# Altium footprint library PcbLib1.PcbLib: 21 footprints (part 1 of 2)
Each footprint in its own frame and in the unit in brackets; x right, y up, seen from the top. Pads: shape width x height; smd on the part's side, far side on the other; paste and mask are expansions set on the pad; w line width, h text height; cw(c..) or ccw(c..) is an arc to the next point about the centre after c.
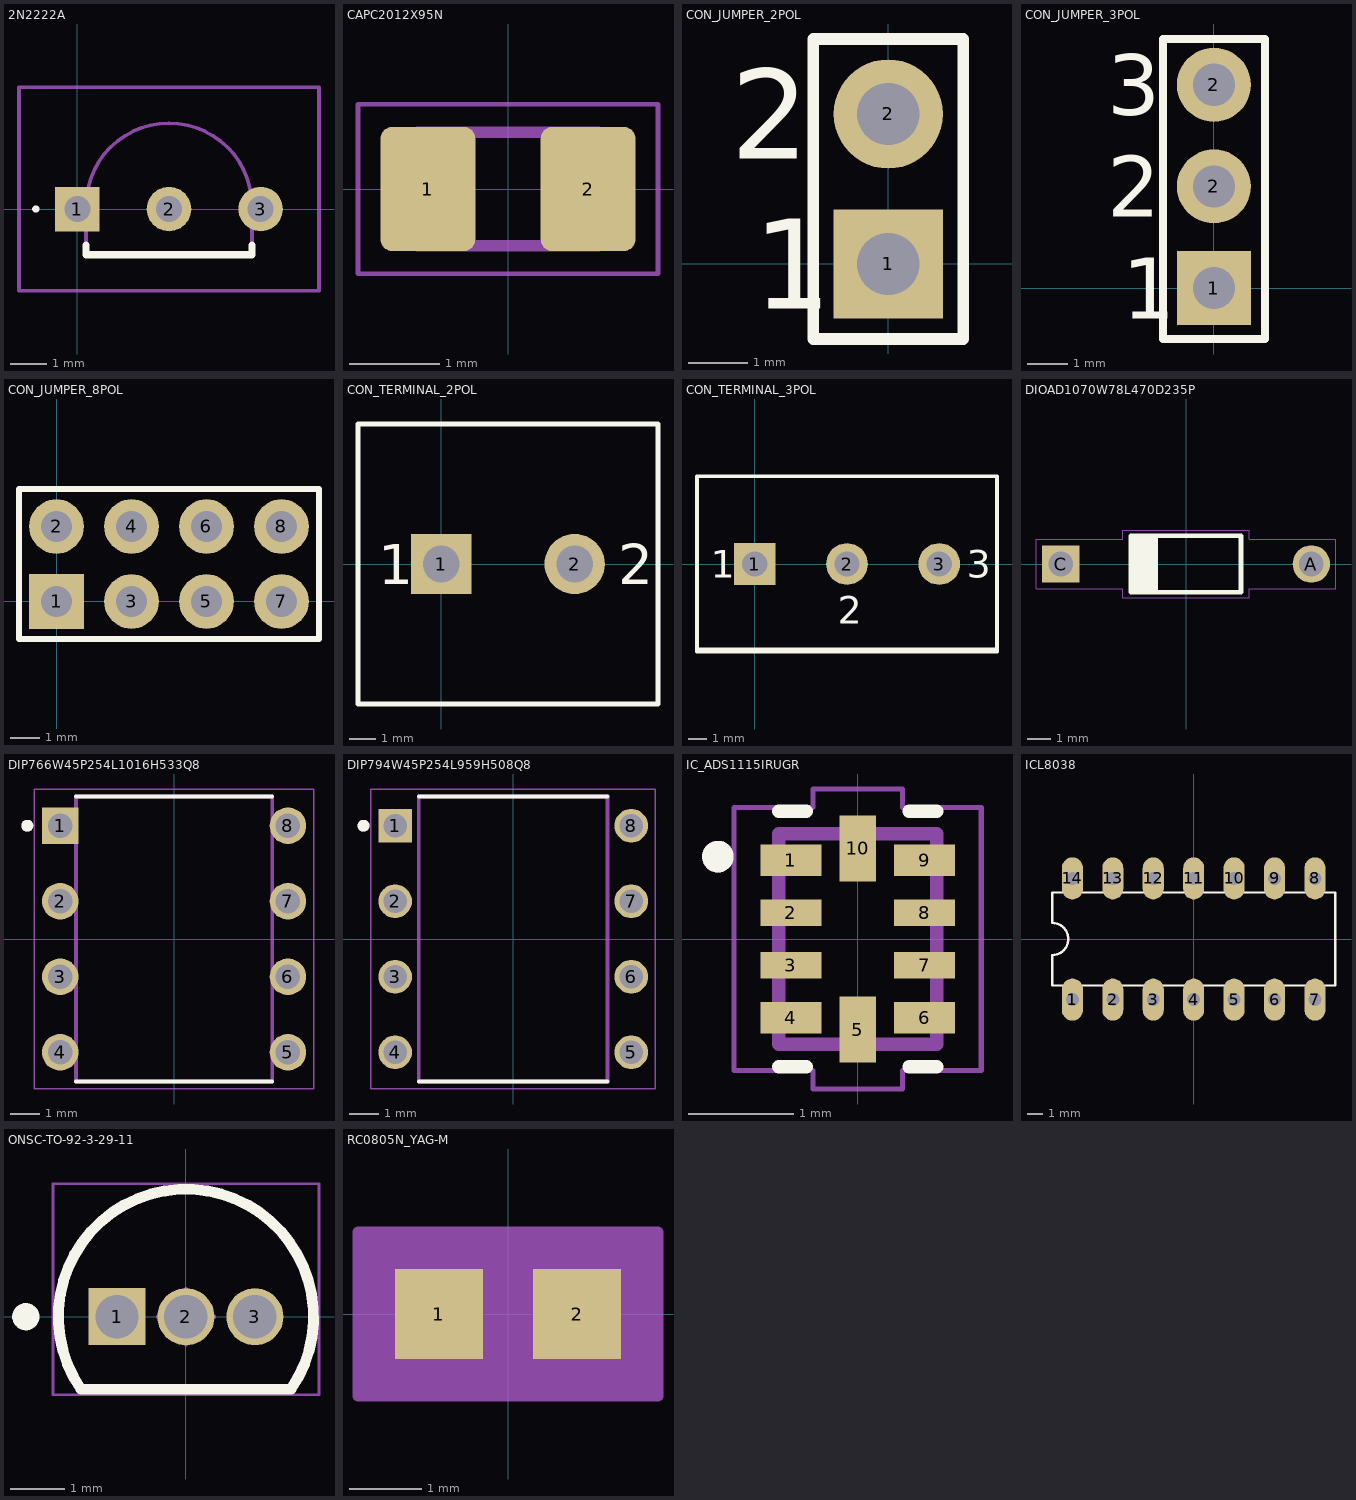
[diagram p0: the footprints below, top view; thin cyan lines are the x and y axes]

## 2N2222A [mm]
pads (3):
  rect 1.234x1.234 hole 0.72: 1(0,0)
  round 1.234 hole 0.72: 2(2.54,0) 3(5.08,0)
Top Overlay:
  lines w0.1: -1.2,0 cw(c-1.15,0) -1.1,0 cw(c-1.15,0) -1.2,0
  lines w0.2: 0.24,-1 0.24,-1.27 4.84,-1.27 4.84,-1
Mechanical 13:
  lines w0.1: 0.24,-1.27 0.24,0.08 cw(c2.54,0.08) 4.84,0.08 4.84,-1.27 0.24,-1.27
Mechanical 15:
  lines w0.1: -1.617,-2.27 -1.617,3.38 6.697,3.38 6.697,-2.27 -1.617,-2.27
3D body "2N2222A.stp": height 7.46, standoff -9.64, extent -0.2,-1.25 5.28,2.35

## CAPC2012X95N [mm]
pads (2):
  rrect25% 1.05x1.38 smd: 1(-0.888,0) 2(0.888,0)
Mechanical 13:
  lines w0.127: -1,-0.63 1,-0.63 1,0.63 -1,0.63 -1,-0.63
Mechanical 15:
  lines w0.05: -1.663,-0.94 1.663,-0.94 1.663,0.94 -1.663,0.94 -1.663,-0.94
3D body "step_temp.STEP": height 0.95, standoff 0, extent -1,-0.625 1,0.625

## CON_JUMPER_2POL [mm] "Jumper"
pads (2):
  rect 1.85x1.85 hole 1.05: 1(0,0)
  round 1.85 hole 1.05: 2(0,2.54)
Top Overlay:
  lines w0.2: -1.27,-1.27 1.27,-1.27 1.27,3.81 -1.27,3.81 -1.27,2.54 -1.27,-1.27
  text "1" at -2.286,-0.762 h1.52
  text "2" at -2.667,1.778 h1.52

## CON_JUMPER_3POL [mm] "Jumper"
pads (3):
  rect 1.85x1.85 hole 1.05: 1(0,0)
  round 1.85 hole 1.05: 2(0,2.54) 2(0,5.08)
Top Overlay:
  lines w0.2: -1.27,-1.27 1.27,-1.27 1.27,6.223 -1.27,6.223 -1.27,2.413 -1.27,-1.27
  text "3" at -2.667,4.318 h1.52
  text "1" at -2.286,-0.762 h1.52
  text "2" at -2.667,1.778 h1.52

## CON_JUMPER_8POL [mm] "Jumper"
pads (8):
  rect 1.85x1.85 hole 1.05: 1(0,0)
  round 1.85 hole 1.05: 2(0,2.54) 3(2.54,0) 4(2.54,2.54) 5(5.08,0) 6(5.08,2.54) 7(7.62,0) 8(7.62,2.54)
Top Overlay:
  lines w0.2: -1.27,-1.27 -1.27,3.81 8.89,3.81 8.89,-1.27 -1.27,-1.27

## CON_TERMINAL_2POL [mm] "Terminal Screw"
pads (2):
  rect 2.3x2.3 hole 1.4: 1(0,0)
  round 2.3 hole 1.4: 2(5.08,0)
Top Overlay:
  lines w0.2: -3.175,-5.334 8.255,-5.334 8.255,5.334 -3.175,5.334 -3.175,0 -3.175,-5.334
  text "1" at -2.413,-0.762 h1.52
  text "2" at 6.731,-0.762 h1.52

## CON_TERMINAL_3POL [mm] "Terminal Screw"
pads (3):
  rect 2.3x2.3 hole 1.4: 1(0,0)
  round 2.3 hole 1.4: 2(5.08,0) 3(10.16,0)
Top Overlay:
  lines w0.2: -3.048,-4.699 13.208,-4.699 ; -3.175,-4.826 13.335,-4.826 13.335,4.826 -3.175,4.826 -3.175,0 -3.175,-4.826
  text "1" at -2.413,-0.762 h1.52
  text "2" at 4.572,-3.302 h1.52
  text "3" at 11.684,-0.762 h1.52

## DIOAD1070W78L470D235P [mm]
pads (2):
  round 1.6 hole 1.05: A(5.35,0)
  rect 1.6x1.6 / inner round 1.6 / far side rect 1.6x1.6 hole 1.05: C(-5.35,0)
Top Overlay:
  region: -1.2,-1.202 -2.403,-1.202 -2.403,1.2 -1.2,1.2
  lines w0.2: -2.35,-1.2 -2.35,1.2 2.35,1.2 2.35,-1.2 -2.35,-1.2
Mechanical 15:
  lines w0.05: -6.4,-1.05 -6.4,1.05 -2.7,1.05 -2.7,1.45 2.7,1.45 2.7,1.05 6.4,1.05 6.4,-1.05 2.7,-1.05 2.7,-1.45 -2.7,-1.45 -2.7,-1.05 -6.4,-1.05
3D body "step_temp.STEP": height 2.7, standoff -21.05, extent -5.743,-1.35 5.743,1.35

## DIP766W45P254L1016H533Q8 [mm]
pads (8):
  rect 1.23x1.23 / inner round 1.23 / far side rect 1.23x1.23 hole 0.82: 1(-3.83,3.81)
  round 1.23 hole 0.82: 2(-3.83,1.27) 3(-3.83,-1.27) 4(-3.83,-3.81) 5(3.83,-3.81) 6(3.83,-1.27) 7(3.83,1.27) 8(3.83,3.81)
Top Overlay:
  circle w0.2: c-4.935,3.81 r0.1
  lines w0.127: -3.303,-4.795 3.303,-4.795 ; -3.303,4.795 3.303,4.795
Mechanical 13:
  circle w0.2: c-4.935,3.81 r0.1
  lines w0.127: -3.303,-4.795 3.303,-4.795 3.303,4.795 -3.303,4.795 -3.303,-4.795
Mechanical 15:
  lines w0.05: -4.695,-5.045 4.695,-5.045 4.695,5.045 -4.695,5.045 -4.695,-5.045
3D body "step_temp.STEP": height 5.33, standoff -3, extent -4.003,-4.94 4.003,4.94

## DIP794W45P254L959H508Q8 [mm]
pads (8):
  rect 1.13x1.13 / inner round 1.13 / far side rect 1.13x1.13 hole 0.78 mask+0.102: 1(-3.97,3.81)
  round 1.13 hole 0.78 mask+0.102: 2(-3.97,1.27) 3(-3.97,-1.27) 4(-3.97,-3.81) 5(3.97,-3.81) 6(3.97,-1.27) 7(3.97,1.27) 8(3.97,3.81)
Top Overlay:
  circle w0.2: c-5.035,3.81 r0.1
  lines w0.127: -3.175,-4.795 3.175,-4.795 ; -3.175,4.795 3.175,4.795
Mechanical 13:
  circle w0.2: c-5.035,3.81 r0.1
  lines w0.127: -3.175,-4.795 -3.175,4.795 3.175,4.795 3.175,-4.795 -3.175,-4.795
Mechanical 15:
  lines w0.05: -4.785,-5.045 -4.785,5.045 4.785,5.045 4.785,-5.045 -4.785,-5.045
3D body "step_temp.STEP": height 5.08, standoff -3.18, extent -4.095,-4.795 4.095,4.795

## IC_ADS1115IRUGR [mm]
pads (10):
  rect 0.58x0.3 smd paste-0.025: 1(-0.635,0.75) 4(-0.635,-0.75) 6(0.635,-0.75) 9(0.635,0.75)
  rect 0.58x0.25 smd paste-1: 2(-0.635,0.25) 3(-0.635,-0.25) 7(0.635,-0.25) 8(0.635,0.25)
  rect 0.35x0.63 smd paste-0.025: 5(0,-0.86) 10(0,0.86)
Top Overlay:
  circle w0.2: c-1.328,0.783 r0.05
  lines w0.127: -0.75,-1.213 -0.488,-1.213 ; -0.75,1.213 -0.488,1.213 ; 0.488,-1.213 0.75,-1.213 ; 0.488,1.213 0.75,1.213
Top Paste:
  region: -0.37,-0.375 -0.9,-0.375 -0.9,-0.125 -0.37,-0.125
  region: -0.37,0.125 -0.9,0.125 -0.9,0.375 -0.37,0.375
  region: 0.9,-0.375 0.37,-0.375 0.37,-0.125 0.9,-0.125
  region: 0.9,0.125 0.37,0.125 0.37,0.375 0.9,0.375
Mechanical 13:
  circle w0.2: c-1.328,0.783 r0.05
  lines w0.127: -0.75,-1 0.75,-1 0.75,1 -0.75,1 -0.75,-1
Mechanical 15:
  lines w0.05: -1.175,-1.25 -1.175,1.25 -0.425,1.25 -0.425,1.425 0.425,1.425 0.425,1.25 1.175,1.25 1.175,-1.25 0.425,-1.25 0.425,-1.425 -0.425,-1.425 -0.425,-1.25 -1.175,-1.25
3D body "step_temp.STEP": height 0.4, standoff 0, extent -0.75,-1 0.75,1

## ICL8038 [mil]
pads (14):
  oval 52x104 hole 32: 1(-300,-150) 2(-200,-150) 3(-100,-150) 4(0,-150) 5(100,-150) 6(200,-150) 7(300,-150) 8(300,150) 9(200,150) 10(100,150) 11(0,150) 12(-100,150) 13(-200,150) 14(-300,150)
Top Overlay:
  lines w6: -350,-115 -350,-40 ccw(c-350,0) -350,40 -350,115 350,115 350,-115 -350,-115

## ONSC-TO-92-3-29-11 [mm] "TO, 3-Leads, Body Dia 4.7mm, Pitch 1.27mm"
height 7.87
pads (3):
  rect 1.05x1.05 hole 0.8: 1(-1.27,0)
  round 1.05 hole 0.8: 2(0,0) 3(1.27,0)
Top Overlay:
  circle w0.25: c-2.95,0 r0.125
  lines w0.2: -1.934,-1.335 cw(c0,0) 1.934,-1.335 -1.934,-1.335
Mechanical 13:
  lines w0.1: -1.934,-1.335 cw(c0,0) 1.934,-1.335 -1.934,-1.335
Mechanical 15:
  lines w0.05: -2.45,-1.435 2.45,-1.435 2.45,2.45 -2.45,2.45 -2.45,-1.435
  lines w0.1: -0.5,0 0.5,0 ; 0,-0.5 0,0.5
3D body: height 7.87, standoff 2.54, extent -2.349,-1.334 2.357,2.359

## PCBComponent_1 [mil]

## PCBComponent_1 - duplicate [mil]

## RC0805N_YAG-M [mil]
pads (2):
  rect 48x49 smd paste+0 mask+0: 1(-37.5,0) 2(37.5,0)
Mechanical 13:
  lines w1: -39.5,-23.5 -39.5,23.5 ; -39.5,-23.5 -13.5,-23.5 -13.5,23.5 -39.5,23.5 ; -39.5,-23.5 39.5,-23.5 ; -39.5,-23.5 -39.5,23.5 ; -39.5,23.5 39.5,23.5 ; 39.5,-23.5 13.5,-23.5 13.5,23.5 39.5,23.5 ; 39.5,-23.5 39.5,23.5 ; 39.5,-23.5 39.5,23.5
Mechanical 15:
  region: 81.5,-44.5 -81.5,-44.5 -81.5,44.5 81.5,44.5
  lines w6: -81.5,-44.5 -81.5,44.5 81.5,44.5 81.5,-44.5 -81.5,-44.5
3D body "RC0805N_YAG.step": height 27.99, standoff 0, extent -39.49,-23.5 39.49,23.5